# EAGLE library part SN74HCT00N (library purdue_cs250)
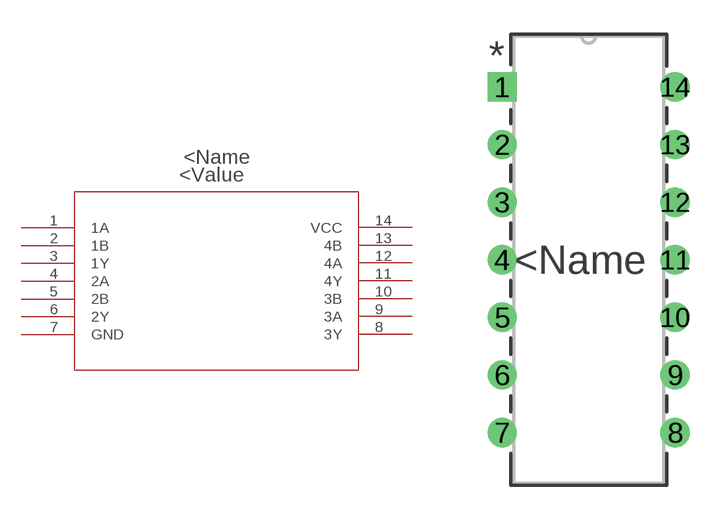
[diagram p0: symbol with the pads of N14; footprint N14]

Designator prefix -

## SN74HCT00N (COPYRIGHT: Copyright C 2015 Accelerated Designs. All rights reserved; DESCRIPTION: Quad 2 ip NAND gateSN74HCT00N DIP14; FAMILY: Gates; MANUFACTURER_NAME: Texas Instruments; MANUFACTURER_PART_NUMBER: SN74HCT00N; RSPARTNUMBER: 2175702; SECTION: Standard and Speciality Logic; VENDOR: Texas Instruments)  [N14]
1  1A  in
2  1B  in
3  1Y  out
4  2A  in
5  2B  in
6  2Y  out
7  GND  pwr
8  3Y  out
9  3A  in
10  3B  in
11  4Y  out
12  4A  in
13  4B  in
14  VCC  pwr

## Footprint N14 (pad centres in mm)
drill 0.787 pad 1.295 square: 1 -7.62,15.24
drill 0.787 pad 1.295: 2 -7.62,12.7; 3 -7.62,10.16; 4 -7.62,7.62; 5 -7.62,5.08; 6 -7.62,2.54; 7 -7.62,0; 8 0,0; 9 0,2.54; 10 0,5.08; 11 0,7.62; 12 0,10.16; 13 0,12.7; 14 0,15.24